# Altium integrated library JST-04S-250.IntLib: 1 symbol
Pins are listed as number, name and electrical type; pins without a type are passive.

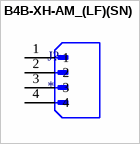
[diagram p0: symbol B4B-XH-AM_(LF)(SN)]

## B4B-XH-AM_(LF)(SN)
designator J?
Connector Header Through Hole 4 position 0.098 (2.50mm); MF: JST Sales; MP: B4B-XH-AM(LF)(SN); SnapEDA_Link: https://www.snapeda.com/parts/B4B-XH-AM(LF)(SN)/JST/view-part/?ref=snap; Package: None; Value: *; Check_prices: https://www.snapeda.com/parts/B4B-XH-AM(LF)(SN)/JST/view-part/?ref=eda
footprint JST_B4B-XH-AM_(LF)(SN)
pins: 1, 2, 3, 4